# EAGLE library part RES_ARRAY (library raspberrystem)
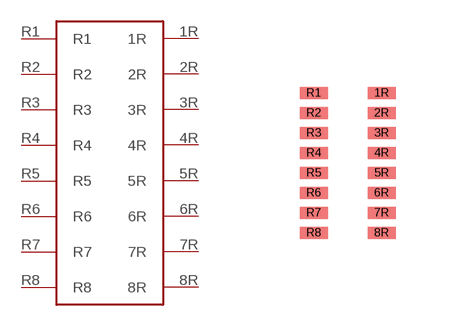
[diagram p4: symbol with the pads of RES_ARRAY; footprint RES_ARRAY]

Designator prefix -

## RES_ARRAY  [RES_ARRAY]
1R  1R
2R  2R
3R  3R
4R  4R
5R  5R
6R  6R
7R  7R
8R  8R
R1  R1
R2  R2
R3  R3
R4  R4
R5  R5
R6  R6
R7  R7
R8  R8

## Footprint RES_ARRAY (pad centres in mm)
smd 0.7 x 0.3: 1R 1.7,3.5; 2R 1.7,3; 3R 1.7,2.5; 4R 1.7,2; 5R 1.7,1.5; 6R 1.7,1; 7R 1.7,0.5; 8R 1.7,0; R1 0,3.5; R2 0,3; R3 0,2.5; R4 0,2; R5 0,1.5; R6 0,1; R7 0,0.5; R8 0,0